# Altium schematic symbol library Connectors_DEBUG_Testpoints.SchLib: 45 symbols
Pins are listed as number, name and electrical type; pins without a type are passive.

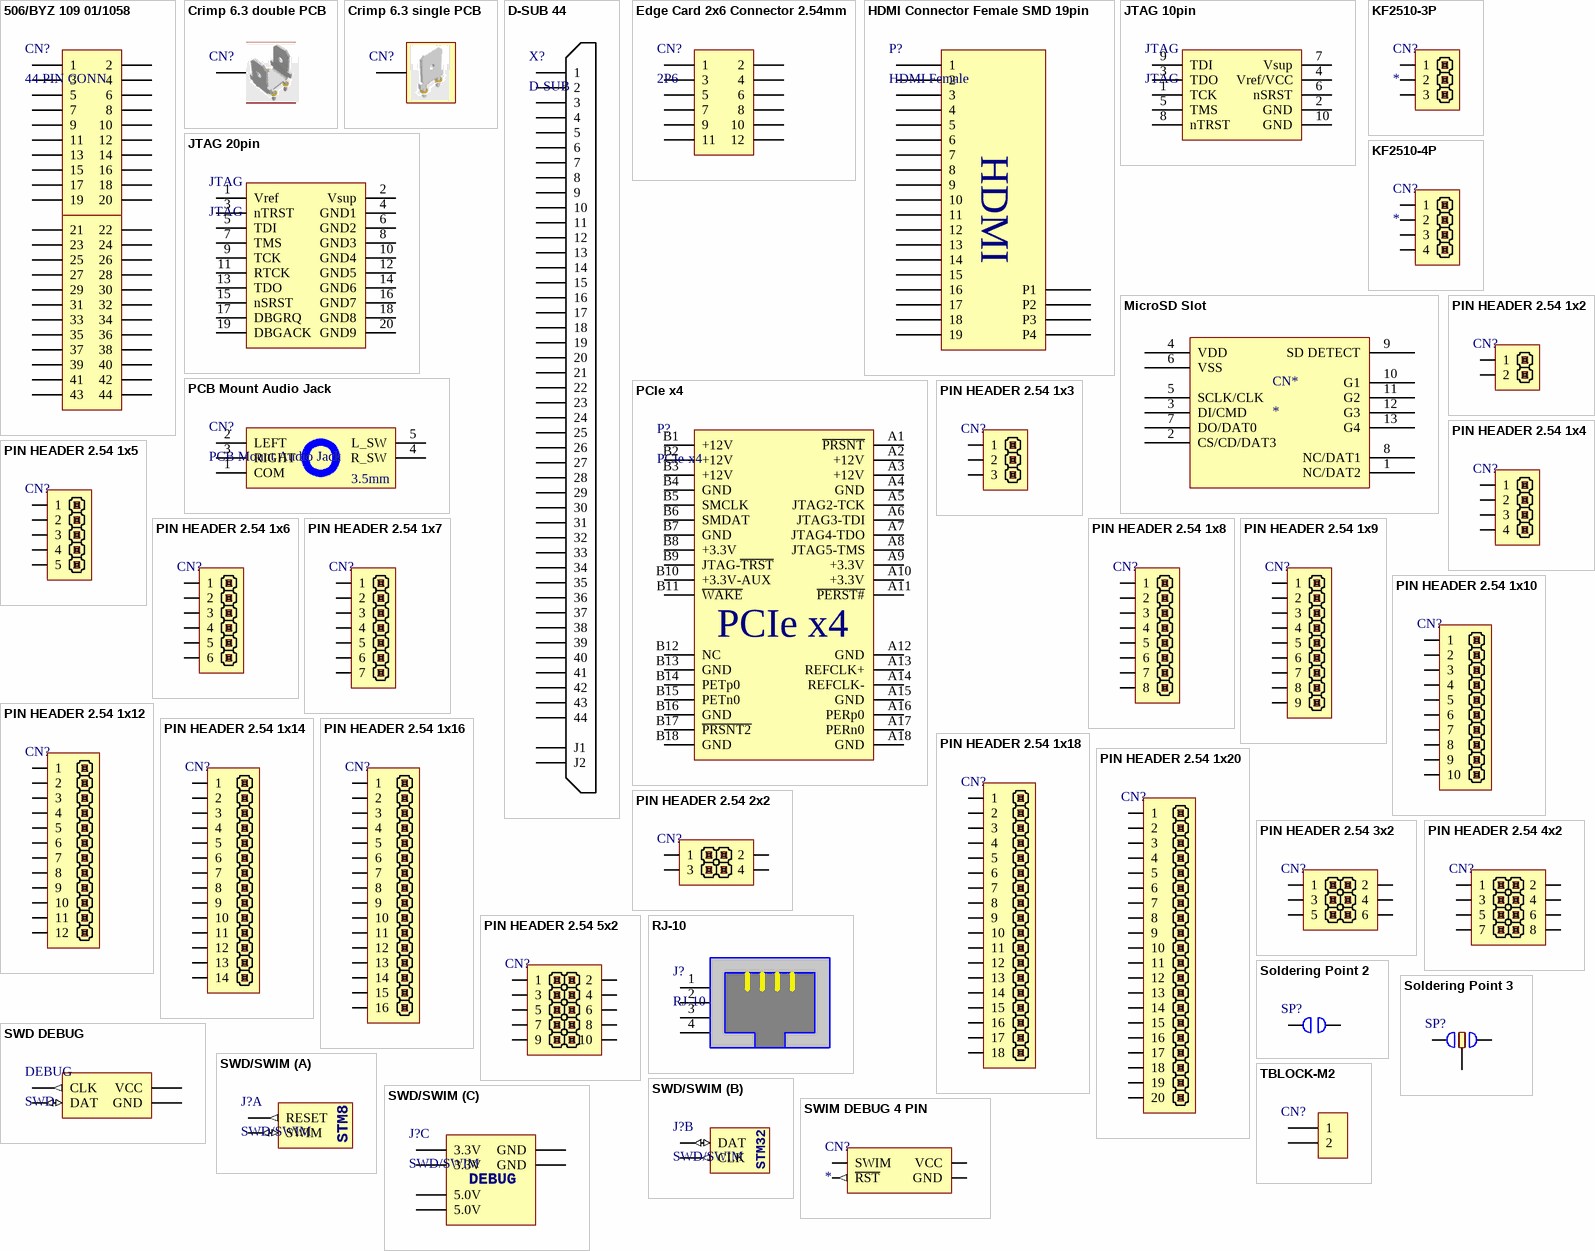
[diagram p0: symbols 506/BYZ 109 01/1058 to TBLOCK-M2]

## 506/BYZ 109 01/1058
designator CN?, comment 44 PIN CONN
footprint PA INTERFACE CON
pins: 1, 2, 3, 4, 5, 6, 7, 8, 9, 10, 11, 12, 13, 14, 15, 16, 17, 18, 19, 20, 21, 22, 23, 24, 25, 26, 27, 28, 29, 30, 31, 32, 33, 34, 35, 36, 37, 38, 39, 40, 41, 42, 43, 44

## Crimp 6.3 double PCB
designator CN?
Straight Mount Angle PCB Tab Terminal
footprint Crimp 6.3mm double PCB
pins: 1

## Crimp 6.3 single PCB
designator CN?
Straight Mount Angle PCB Tab Terminal
footprint Crimp 6.3mm single PCB
pins: 1

## D-SUB 44
designator X?, comment D-SUB
D-SUB 44
pins: 1, 2, 3, 4, 5, 6, 7, 8, 9, 10, 11, 12, 13, 14, 15, 16, 17, 18, 19, 20, 21, 22, 23, 24, 25, 26, 27, 28, 29, 30, 31, 32, 33, 34, 35, 36, 37, 38, 39, 40, 41, 42, 43, 44, J1, J2

## Edge Card 2x6 Connector 2.54mm
designator CN?, comment 2P6
footprint Edge Card 2x6 Connector 2.54mm
pins: 1, 2, 3, 4, 5, 6, 7, 8, 9, 10, 11, 12

## HDMI Connector Female SMD 19pin
designator P?, comment HDMI Female
HDMI Connector Female SMD 19pin Socket right angle SMT Mount PCB
footprint HDMI Connector Female 19pin SMD (aliexpress.com/item/32741536509)
pins: 1, 2, 3, 4, 5, 6, 7, 8, 9, 10, 11, 12, 13, 14, 15, 16, 17, 18, 19, P1, P2, P3, P4
text: HDMI

## JTAG 10pin
designator JTAG, comment JTAG
footprint 10 PIN HEADER 2x5
pins: 1 TCK, 2 GND, 3 TDO, 4 Vref/VCC, 5 TMS, 6 nSRST, 7 Vsup, 8 nTRST, 9 TDI, 10 GND

## JTAG 20pin
designator JTAG, comment JTAG
footprint 20 PIN HEADER 2x10
pins: 1 Vref, 2 Vsup, 3 nTRST, 4 GND1, 5 TDI, 6 GND2, 7 TMS, 8 GND3, 9 TCK, 10 GND4, 11 RTCK, 12 GND5, 13 TDO, 14 GND6, 15 nSRST, 16 GND7, 17 DBGRQ, 18 GND8, 19 DBGACK, 20 GND9

## KF2510-3P
designator CN?
footprint KF2510-3P
pins: 1, 2, 3

## KF2510-4P
designator CN?
footprint KF2510-4P
pins: 1, 2, 3, 4

## MicroSD Slot
designator CN*
footprint MICROSD Slot (MicroSD Card Socket)
pins: 1 NC/DAT2, 2 CS/CD/DAT3, 3 DI/CMD, 4 VDD, 5 SCLK/CLK, 6 VSS, 7 DO/DAT0, 8 NC/DAT1, 9 SD DETECT, 10 G1, 11 G2, 12 G3, 13 G4

## PCB Mount Audio Jack
designator CN?
footprint PCB Mount Audio Jack
pins: 1 COM, 2 LEFT, 3 RIGHT, 4 R_SW, 5 L_SW
text: 3.5mm

## PCIe x4
designator P?, comment PCIe-x4
footprint PCIe x4 edge connector
pins: A1 ~{PRSNT}, A2 +12V, A3 +12V, A4 GND, A5 JTAG2-TCK, A6 JTAG3-TDI, A7 JTAG4-TDO, A8 JTAG5-TMS, A9 +3.3V, A10 +3.3V, A11 ~{PERST#}, A12 GND, A13 REFCLK+, A14 REFCLK-, A15 GND, A16 PERp0, A17 PERn0, A18 GND, B1 +12V, B2 +12V, B3 +12V, B4 GND, B5 SMCLK, B6 SMDAT, B7 GND, B8 +3.3V, B9 JTAG-~{TRST}, B10 +3.3V-AUX, B11 ~{WAKE}, B12 NC, B13 GND, B14 PETp0, B15 PETn0, B16 GND, B17 ~{PRSNT2}, B18 GND

## PIN HEADER 2.54 1x2
designator CN?, comment PIN HEADER 1x2  (value not drawn)
footprint PIN HEADER SINGLE 2
footprint XH2.54-2P
pins: 1, 2

## PIN HEADER 2.54 1x3
designator CN?, comment PIN HEADER 1x3  (value not drawn)
footprint PIN HEADER SINGLE 3
footprint KF2510-3
footprint XH2.54-3P
pins: 1, 2, 3

## PIN HEADER 2.54 1x4
designator CN?, comment PIN HEADER 1x4  (value not drawn)
footprint PIN HEADER SINGLE 4
pins: 1, 2, 3, 4

## PIN HEADER 2.54 1x5
designator CN?, comment PIN HEADER 1x5  (value not drawn)
footprint PIN HEADER SINGLE 5
pins: 1, 2, 3, 4, 5

## PIN HEADER 2.54 1x6
designator CN?, comment PIN HEADER 1x6  (value not drawn)
footprint PIN HEADER SINGLE 6
pins: 1, 2, 3, 4, 5, 6

## PIN HEADER 2.54 1x7
designator CN?, comment PIN HEADER 1x7  (value not drawn)
footprint PIN HEADER SINGLE 7
pins: 1, 2, 3, 4, 5, 6, 7

## PIN HEADER 2.54 1x8
designator CN?, comment PIN HEADER 1x8  (value not drawn)
footprint PIN HEADER SINGLE 8
pins: 1, 2, 3, 4, 5, 6, 7, 8

## PIN HEADER 2.54 1x9
designator CN?, comment PIN HEADER 1x9  (value not drawn)
footprint PIN HEADER SINGLE 9
pins: 1, 2, 3, 4, 5, 6, 7, 8, 9

## PIN HEADER 2.54 1x10
designator CN?, comment PIN HEADER 1x10  (value not drawn)
footprint PIN HEADER SINGLE 10
pins: 1, 2, 3, 4, 5, 6, 7, 8, 9, 10

## PIN HEADER 2.54 1x12
designator CN?, comment PIN HEADER 1x12  (value not drawn)
footprint PIN HEADER SINGLE 12
pins: 1, 2, 3, 4, 5, 6, 7, 8, 9, 10, 11, 12

## PIN HEADER 2.54 1x14
designator CN?, comment PIN HEADER 1x14  (value not drawn)
footprint PIN HEADER SINGLE 14
pins: 1, 2, 3, 4, 5, 6, 7, 8, 9, 10, 11, 12, 13, 14

## PIN HEADER 2.54 1x16
designator CN?, comment PIN HEADER 1x16  (value not drawn)
footprint PIN HEADER SINGLE 16
pins: 1, 2, 3, 4, 5, 6, 7, 8, 9, 10, 11, 12, 13, 14, 15, 16

## PIN HEADER 2.54 1x18
designator CN?, comment PIN HEADER 1x18  (value not drawn)
footprint PIN HEADER SINGLE 18
pins: 1, 2, 3, 4, 5, 6, 7, 8, 9, 10, 11, 12, 13, 14, 15, 16, 17, 18

## PIN HEADER 2.54 1x20
designator CN?, comment PIN HEADER 1x20  (value not drawn)
footprint PIN HEADER SINGLE 20
pins: 1, 2, 3, 4, 5, 6, 7, 8, 9, 10, 11, 12, 13, 14, 15, 16, 17, 18, 19, 20

## PIN HEADER 2.54 2x2
designator CN?, comment PIN HEADER 2x2  (value not drawn)
footprint PIN HEADER DOUBLE 2x2
pins: 1, 2, 3, 4

## PIN HEADER 2.54 3x2
designator CN?, comment PIN HEADER 3x2  (value not drawn)
footprint PIN HEADER DOUBLE 3x2
pins: 1, 2, 3, 4, 5, 6

## PIN HEADER 2.54 4x2
designator CN?, comment PIN HEADER 4x2  (value not drawn)
footprint PIN HEADER DOUBLE 4x2
pins: 1, 2, 3, 4, 5, 6, 7, 8

## PIN HEADER 2.54 5x2
designator CN?, comment PIN HEADER 5x2  (value not drawn)
footprint PIN HEADER DOUBLE 5x2
pins: 1, 2, 3, 4, 5, 6, 7, 8, 9, 10

## RJ-10
designator J?
footprint RJ-10 MOLEX
pins: 1, 2, 3, 4

## Soldering Point 2
designator SP?, comment Soldering Point  (value not drawn)
footprint Soldering Point 2
pins: 1, 2

## Soldering Point 3
designator SP?, comment Soldering Point  (value not drawn)
footprint Soldering Point 3
pins: 1, 2, 3

## SWD DEBUG
designator DEBUG, comment SWD
SWD ST DEBUG
footprint PIN HEADER SINGLE 4
pins: 1 VCC (power), 2 CLK (out), 3 GND (power), 4 DAT (io)

## SWD/SWIM
designator J?
SWD/SWIM combined debug connector
footprint 10 PIN HEADER 2x5
part A pins: 1 RESET (out), 3 SWIM (io)
part B pins: 2 CLK (out), 4 DAT (io)
part C pins: 5 GND (power), 6 GND (power), 7 3.3V (power), 8 3.3V (power), 9 5.0V (power), 10 5.0V (power)
part A text: STM8
part B text: STM32
part C text: DEBUG

## SWIM DEBUG 4 PIN
designator CN?
SWIM DEBUG 4 PIN
footprint SWIM DEGUB 4 pin
footprint SWIM ONPCB
footprint PIN HEADER SINGLE 4
pins: 1 VCC, 2 SWIM (io), 3 GND, 4 ~{RST} (out)

## TBLOCK-M2
designator CN?  (value not drawn)
footprint TBLOCK-M2
pins: 1, 2

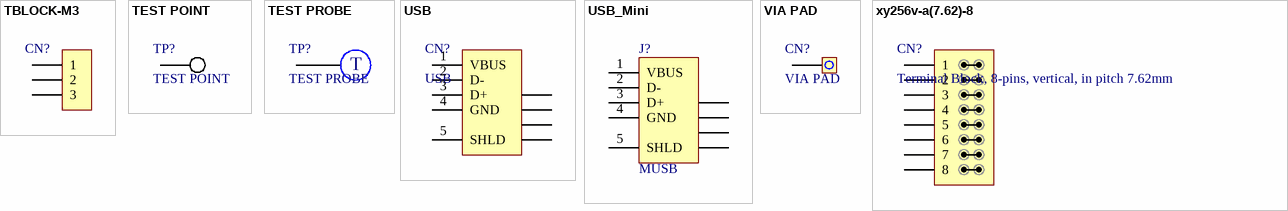
[diagram p1: symbols TBLOCK-M3 to xy256v-a(7.62)-8]

## TBLOCK-M3
designator CN?  (value not drawn)
footprint TBLOCK-M3 (3 Pin connector)
pins: 1, 2, 3

## TEST POINT
designator TP?
footprint TEST POING SMD
pins: 0 TP

## TEST PROBE
designator TP?
footprint Test probe P100-B1
footprint P100-H2 (Test probe)
pins: 1 "TEST PROBE"
text: T

## USB
designator CN?
Generic USB connector
footprint USB MINI (Connector; USB2.0, Type B, SM; 5 Position; Right Angle)
footprint USB-B
footprint USB-B-U
footprint USB MICRO
footprint USB 2.0 Type A  Female Jacks Connector
footprint USB 2.0 Type A  Male Jacks Connector
pins: 1 VBUS (power) "Power", 2 D- "-DATA", 3 D+ "+DATA", 4 GND (power) "Ground", 5 SHLD "Shield", 6 SHLD "Shield", 7 SHLD "Shield", 8 SHLD "Shield", 9 SHLD "Shield"

## USB_Mini
designator J?, comment MUSB
mini USB; ContactMaterial: Copper Alloy; ContactPlating: Gold (30); PCB_Layout: Complies with manufacturer's recommendation.; DrillSize: Corresponds to nominal value.; PanelGround: Without; Published: 15-Jul-2004; DatasheetDocument: 27-Jun-2003; PackageDocument: 27-Jun-2003; PackageReference: 440247; Publisher: Altium Limited; HousingMaterial: Thermoplastic; ComponentLink1Description: Manufacturer Link; ComponentLink1URL: http://www.tycoelectronics.com/; ComponentLink2Description: Packaging Specification; ComponentLink2URL: http://ecommas.tycoelectronics.com/commerce/DocumentDelivery/DDEController?Action=showdoc&DocId=Customer+Drawing%7F440247%7FD%7Fpdf%7FEnglish%7FC_440247_D.pdf
footprint USB MINI (Connector; USB2.0, Type B, SM; 5 Position; Right Angle)
pins: 1 VBUS (power) "Power", 2 D- "-DATA", 3 D+ "+DATA", 4 GND (power) "Ground", 5 SHLD "Shield", 6 SHLD "Shield", 7 SHLD "Shield", 8 SHLD "Shield", 9 SHLD "Shield"

## VIA PAD
designator CN?
footprint 3x1.5 VIA PAD
pins: 0 (power)

## xy256v-a(7.62)-8
designator CN?, comment Terminal Block, 8-pins, vertical, in pitch 7.62mm
footprint xy256v-a(7.62)-8 (Terminal: spade terminal strip)
pins: 1, 2, 3, 4, 5, 6, 7, 8